# Altium schematic symbol library SCH - DAC - DAC8831ID.SCHLIB: 1 symbol
Pins are listed as number, name and electrical type; pins without a type are passive.

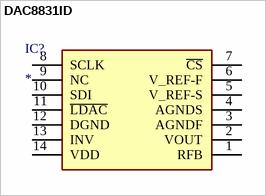
[diagram p0: symbol DAC8831ID]

## DAC8831ID
designator IC?
Integrated Circuit; Manufacturer_Name: Texas Instruments; Manufacturer_Part_Number: DAC8831ID; Datasheet Link: http://www.ti.com/lit/gpn/dac8831; Height: 1.75mm
footprint SOIC127P600X175-14N
pins: 1 RFB, 2 VOUT, 3 AGNDF, 4 AGNDS, 5 V_REF-S, 6 V_REF-F, 7 ~{CS}, 8 SCLK, 9 NC, 10 SDI, 11 ~{LDAC}, 12 DGND, 13 INV, 14 VDD